# Altium integrated library CDE_Library.IntLib: 6171 symbols (part 21 of 25)
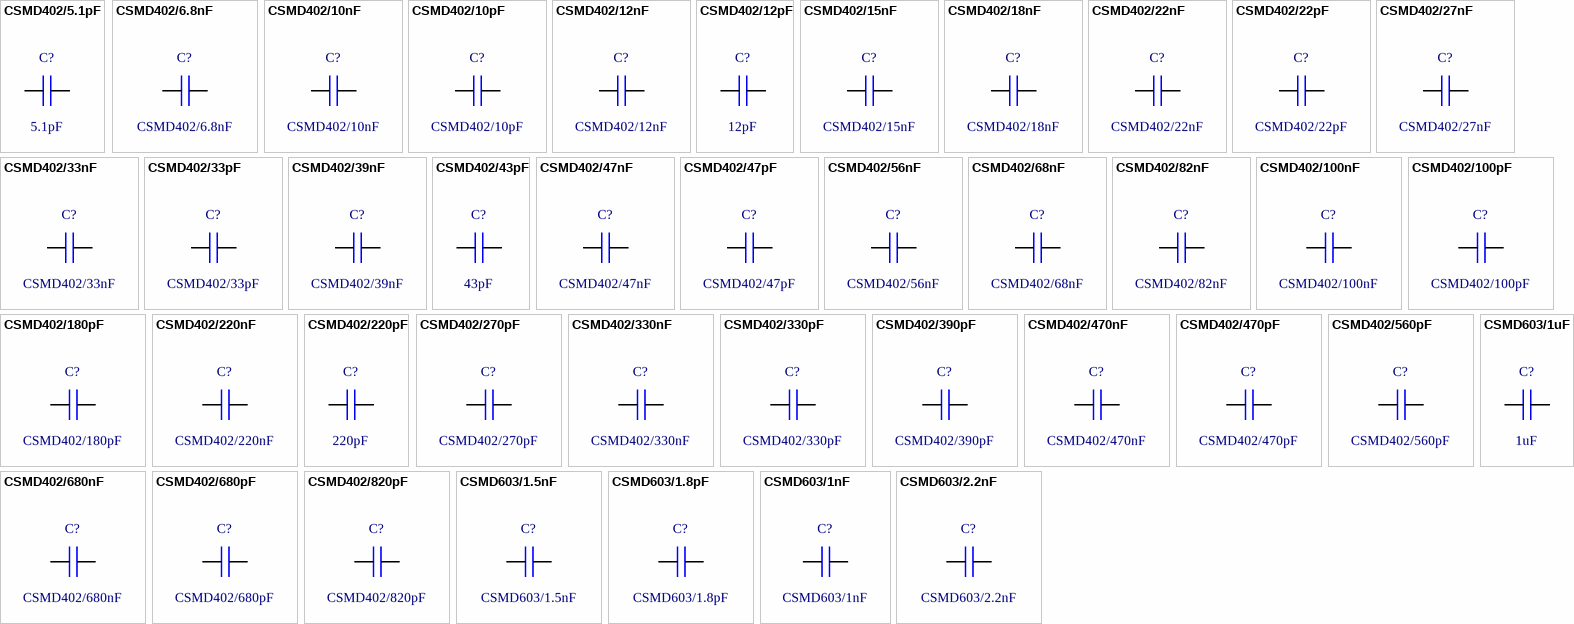
[diagram p277: symbols CSMD402/5.1pF to CSMD603/2.2nF]

## CSMD402/470nF
designator C?
smd capaciteit, verp.0402, 470nF; Part Number: CSMD402/470nF; Component Kind: Standard; Component Type: Standard; Designator: CSMD402/470nF; Footprint: smd C0402; Library Reference: CSMD402/470nF; Pin Count: 2
footprint smd C0402
pins: 1, 2

## CSMD402/470pF
designator C?
smd capaciteit, verp.0402, 470pF; Part Number: CSMD402/470pF; Component Kind: Standard; Component Type: Standard; Designator: CSMD402/470pF; Footprint: smd C0402; Library Reference: CSMD402/470pF; Pin Count: 2
footprint smd C0402
pins: 1, 2

## CSMD402/560pF
designator C?
smd capaciteit, verp.0402, 560pF; Part Number: CSMD402/560pF; Component Kind: Standard; Component Type: Standard; Designator: CSMD402/560pF; Footprint: smd C0402; Library Reference: CSMD402/560pF; Pin Count: 2
footprint smd C0402
pins: 1, 2

## CSMD402/680nF
designator C?
smd capaciteit, verp.0402, 680nF; Part Number: CSMD402/680nF; Component Kind: Standard; Component Type: Standard; Designator: CSMD402/680nF; Footprint: smd C0402; Library Reference: CSMD402/680nF; Pin Count: 2
footprint smd C0402
pins: 1, 2

## CSMD402/680pF
designator C?
smd capaciteit, verp.0402, 680pF; Part Number: CSMD402/680pF; Component Kind: Standard; Component Type: Standard; Designator: CSMD402/680pF; Footprint: smd C0402; Library Reference: CSMD402/680pF; Pin Count: 2
footprint smd C0402
pins: 1, 2

## CSMD402/820pF
designator C?
smd capaciteit, verp.0402, 820pF; Part Number: CSMD402/820pF; Component Kind: Standard; Component Type: Standard; Designator: CSMD402/820pF; Footprint: smd C0402; Library Reference: CSMD402/820pF; Pin Count: 2
footprint smd C0402
pins: 1, 2

## CSMD603/1.5nF
designator C?
smd capaciteit, verp.0603, 1.5nF; Part Number: CSMD603/1.5nF; Component Kind: Standard; Component Type: Standard; Designator: CSMD603/1.5nF; Footprint: smd C0603_0.80; Library Reference: CSMD603/1.5nF; Pin Count: 2
footprint smd C0603_0.80
pins: 1, 2

## CSMD603/1.8pF
designator C?
smd capaciteit, verp.0603, 1.8pF; Part Number: CSMD603/1.8pF; Component Kind: Standard; Component Type: Standard; Designator: CSMD603/1.8pF; Footprint: smd C0603_0.80; Library Reference: CSMD603/1.8pF; Pin Count: 2
footprint smd C0603_0.80
pins: 1, 2

## CSMD603/1nF
designator C?
smd capaciteit, verp.0603, 1nF; Part Number: CSMD603/1nF; Component Kind: Standard; Component Type: Standard; Designator: CSMD603/1nF; Footprint: smd C0603_0.80; Library Reference: CSMD603/1nF; Pin Count: 2
footprint smd C0603_0.80
pins: 1, 2

## CSMD603/1uF
designator C?, comment 1uF
smd capaciteit, verp.0603, 1uF; Part Number: CSMD603/18nF; Component Kind: Standard; Component Type: Standard; Designator: CSMD603/18nF; Footprint: smd C0603_0.80; Library Reference: CSMD603/18nF; Pin Count: 2
footprint smd C0603_0.80
pins: 1, 2

## CSMD603/2.2nF
designator C?
smd capaciteit, verp.0603, 2.2nF; Part Number: CSMD603/2.2nF; Component Kind: Standard; Component Type: Standard; Designator: CSMD603/2.2nF; Footprint: smd C0603_0.80; Library Reference: CSMD603/2.2nF; Pin Count: 2
footprint smd C0603_0.80
pins: 1, 2

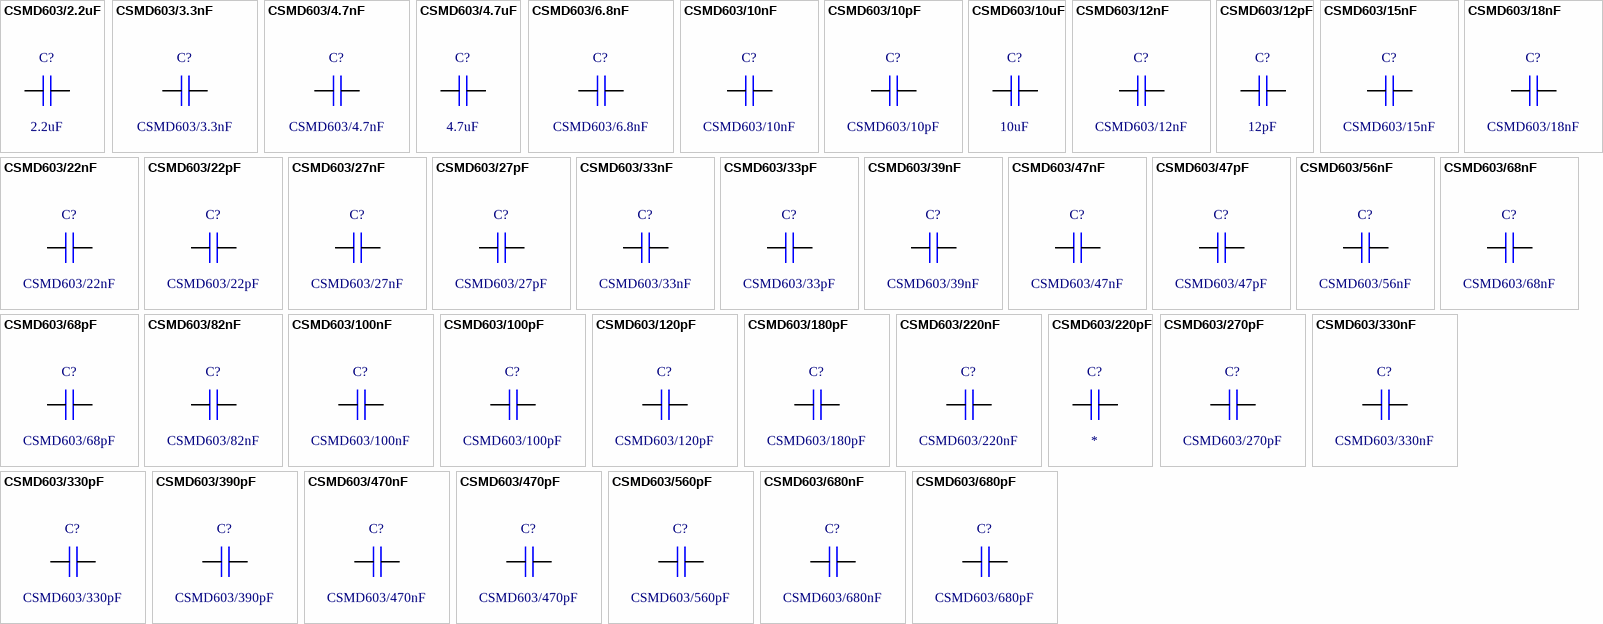
[diagram p228: symbols CSMD603/2.2uF to CSMD603/680pF]

## CSMD603/2.2uF
designator C?, comment 2.2uF
smd capaciteit, verp.0603, 2.2uF
footprint smd C0603_0.80
pins: 1, 2

## CSMD603/3.3nF
designator C?
smd capaciteit, verp.0603, 3.3nF; Part Number: CSMD603/3.3nF; Component Kind: Standard; Component Type: Standard; Designator: CSMD603/3.3nF; Footprint: smd C0603_0.80; Library Reference: CSMD603/3.3nF; Pin Count: 2
footprint smd C0603_0.80
pins: 1, 2

## CSMD603/4.7nF
designator C?
smd capaciteit, verp.0603, 4.7nF; Part Number: CSMD603/4.7nF; Component Kind: Standard; Component Type: Standard; Designator: CSMD603/4.7nF; Footprint: smd C0603_0.80; Library Reference: CSMD603/4.7nF; Pin Count: 2
footprint smd C0603_0.80
pins: 1, 2

## CSMD603/4.7uF
designator C?, comment 4.7uF
smd capaciteit, verp.0603, 4.7uF; Part Number: CSMD603/18nF; Component Kind: Standard; Component Type: Standard; Designator: CSMD603/18nF; Footprint: smd C0603_0.80; Library Reference: CSMD603/18nF; Pin Count: 2
footprint smd C0603_0.80
pins: 1, 2

## CSMD603/6.8nF
designator C?
smd capaciteit, verp.0603, 6.8nF; Part Number: CSMD603/6.8nF; Component Kind: Standard; Component Type: Standard; Designator: CSMD603/6.8nF; Footprint: smd C0603_0.80; Library Reference: CSMD603/6.8nF; Pin Count: 2
footprint smd C0603_0.80
pins: 1, 2

## CSMD603/10nF
designator C?
smd capaciteit, verp.0603, 10nF; Part Number: CSMD603/10nF; Component Kind: Standard; Component Type: Standard; Designator: CSMD603/10nF; Footprint: smd C0603_0.80; Library Reference: CSMD603/10nF; Pin Count: 2
footprint smd C0603_0.80
pins: 1, 2

## CSMD603/10pF
designator C?
smd capaciteit, verp.0603, 10pF; Part Number: CSMD603/10pF; Component Kind: Standard; Component Type: Standard; Designator: CSMD603/10pF; Footprint: smd C0603_0.80; Library Reference: CSMD603/10pF; Pin Count: 2
footprint smd C0603_0.80
pins: 1, 2

## CSMD603/10uF
designator C?, comment 10uF
smd capaciteit, verp.0603, 10uF
footprint smd C0603_0.80
pins: 1, 2

## CSMD603/12nF
designator C?
smd capaciteit, verp.0603, 12nF; Part Number: CSMD603/12nF; Component Kind: Standard; Component Type: Standard; Designator: CSMD603/12nF; Footprint: smd C0603_0.80; Library Reference: CSMD603/12nF; Pin Count: 2
footprint smd C0603_0.80
pins: 1, 2

## CSMD603/12pF
designator C?, comment 12pF
smd capaciteit, verp.0603, 12pF; Part Number: CSMD603/12nF; Component Kind: Standard; Component Type: Standard; Designator: CSMD603/12nF; Footprint: smd C0603_0.80; Library Reference: CSMD603/12nF; Pin Count: 2
footprint smd C0603_0.80
pins: 1, 2

## CSMD603/15nF
designator C?
smd capaciteit, verp.0603, 15nF; Part Number: CSMD603/15nF; Component Kind: Standard; Component Type: Standard; Designator: CSMD603/15nF; Footprint: smd C0603_0.80; Library Reference: CSMD603/15nF; Pin Count: 2
footprint smd C0603_0.80
pins: 1, 2

## CSMD603/18nF
designator C?
smd capaciteit, verp.0603, 18nF; Part Number: CSMD603/18nF; Component Kind: Standard; Component Type: Standard; Designator: CSMD603/18nF; Footprint: smd C0603_0.80; Library Reference: CSMD603/18nF; Pin Count: 2
footprint smd C0603_0.80
pins: 1, 2

## CSMD603/22nF
designator C?
smd capaciteit, verp.0603, 22nF; Part Number: CSMD603/22nF; Component Kind: Standard; Component Type: Standard; Designator: CSMD603/22nF; Footprint: smd C0603_0.80; Library Reference: CSMD603/22nF; Pin Count: 2
footprint smd C0603_0.80
pins: 1, 2

## CSMD603/22pF
designator C?
smd capaciteit, verp.0603, 22pF; Part Number: CSMD603/22pF; Component Kind: Standard; Component Type: Standard; Designator: CSMD603/22pF; Footprint: smd C0603_0.80; Library Reference: CSMD603/22pF; Pin Count: 2
footprint smd C0603_0.80
pins: 1, 2

## CSMD603/27nF
designator C?
smd capaciteit, verp.0603, 27nF; Part Number: CSMD603/27nF; Component Kind: Standard; Component Type: Standard; Designator: CSMD603/27nF; Footprint: smd C0603_0.80; Library Reference: CSMD603/27nF; Pin Count: 2
footprint smd C0603_0.80
pins: 1, 2

## CSMD603/27pF
designator C?
smd capaciteit, verp.0603, 27pF; Part Number: CSMD603/27pF; Component Kind: Standard; Component Type: Standard; Designator: CSMD603/27pF; Footprint: smd C0603_0.80; Library Reference: CSMD603/27pF; Pin Count: 2
footprint smd C0603_0.80
pins: 1, 2

## CSMD603/33nF
designator C?
smd capaciteit, verp.0603, 33nF; Part Number: CSMD603/33nF; Component Kind: Standard; Component Type: Standard; Designator: CSMD603/33nF; Footprint: smd C0603_0.80; Library Reference: CSMD603/33nF; Pin Count: 2
footprint smd C0603_0.80
pins: 1, 2

## CSMD603/33pF
designator C?
smd capaciteit, verp.0603, 33pF; Part Number: CSMD603/33pF; Component Kind: Standard; Component Type: Standard; Designator: CSMD603/33pF; Footprint: smd C0603_0.80; Library Reference: CSMD603/33pF; Pin Count: 2
footprint smd C0603_0.80
pins: 1, 2

## CSMD603/39nF
designator C?
smd capaciteit, verp.0603, 39nF; Part Number: CSMD603/39nF; Component Kind: Standard; Component Type: Standard; Designator: CSMD603/39nF; Footprint: smd C0603_0.80; Library Reference: CSMD603/39nF; Pin Count: 2
footprint smd C0603_0.80
pins: 1, 2

## CSMD603/47nF
designator C?
smd capaciteit, verp.0603, 47nF; Part Number: CSMD603/47nF; Component Kind: Standard; Component Type: Standard; Designator: CSMD603/47nF; Footprint: smd C0603_0.80; Library Reference: CSMD603/47nF; Pin Count: 2
footprint smd C0603_0.80
pins: 1, 2

## CSMD603/47pF
designator C?
smd capaciteit, verp.0603, 47pF; Part Number: CSMD603/47pF; Component Kind: Standard; Component Type: Standard; Designator: CSMD603/47pF; Footprint: smd C0603_0.80; Library Reference: CSMD603/47pF; Pin Count: 2
footprint smd C0603_0.80
pins: 1, 2

## CSMD603/56nF
designator C?
smd capaciteit, verp.0603, 56nF; Part Number: CSMD603/56nF; Component Kind: Standard; Component Type: Standard; Designator: CSMD603/56nF; Footprint: smd C0603_0.80; Library Reference: CSMD603/56nF; Pin Count: 2
footprint smd C0603_0.80
pins: 1, 2

## CSMD603/68nF
designator C?
smd capaciteit, verp.0603, 68nF; Part Number: CSMD603/68nF; Component Kind: Standard; Component Type: Standard; Designator: CSMD603/68nF; Footprint: smd C0603_0.80; Library Reference: CSMD603/68nF; Pin Count: 2
footprint smd C0603_0.80
pins: 1, 2

## CSMD603/68pF
designator C?
smd capaciteit, verp.0603, 68pF; Part Number: CSMD603/68pF; Component Kind: Standard; Component Type: Standard; Designator: CSMD603/68pF; Footprint: smd C0603_0.80; Library Reference: CSMD603/68pF; Pin Count: 2
footprint smd C0603_0.80
pins: 1, 2

## CSMD603/82nF
designator C?
smd capaciteit, verp.0603, 82nF; Part Number: CSMD603/82nF; Component Kind: Standard; Component Type: Standard; Designator: CSMD603/82nF; Footprint: smd C0603_0.80; Library Reference: CSMD603/82nF; Pin Count: 2
footprint smd C0603_0.80
pins: 1, 2

## CSMD603/100nF
designator C?
smd capaciteit, verp.0603, 100nF; Part Number: CSMD603/100nF; Component Kind: Standard; Component Type: Standard; Designator: CSMD603/100nF; Footprint: smd C0603_0.80; Library Reference: CSMD603/100nF; Pin Count: 2
footprint smd C0603_0.80
pins: 1, 2

## CSMD603/100pF
designator C?
smd capaciteit, verp.0603, 100pF; Part Number: CSMD603/100pF; Component Kind: Standard; Component Type: Standard; Designator: CSMD603/100pF; Footprint: smd C0603_0.80; Library Reference: CSMD603/100pF; Pin Count: 2
footprint smd C0603_0.80
pins: 1, 2

## CSMD603/120pF
designator C?
smd capaciteit, verp.0603, 120pF; Part Number: CSMD603/120pF; Component Kind: Standard; Component Type: Standard; Designator: CSMD603/120pF; Footprint: smd C0603_0.80; Library Reference: CSMD603/120pF; Pin Count: 2
footprint smd C0603_0.80
pins: 1, 2

## CSMD603/180pF
designator C?
smd capaciteit, verp.0603, 180pF; Part Number: CSMD603/180pF; Component Kind: Standard; Component Type: Standard; Designator: CSMD603/180pF; Footprint: smd C0603_0.80; Library Reference: CSMD603/180pF; Pin Count: 2
footprint smd C0603_0.80
pins: 1, 2

## CSMD603/220nF
designator C?
smd capaciteit, verp.0603, 220nF; Part Number: CSMD603/220nF; Component Kind: Standard; Component Type: Standard; Designator: CSMD603/220nF; Footprint: smd C0603_0.80; Library Reference: CSMD603/220nF; Pin Count: 2
footprint smd C0603_0.80
pins: 1, 2

## CSMD603/220pF
designator C?
smd capaciteit, verp.0603, 220pF
footprint smd C0603_0.80
pins: 1, 2

## CSMD603/270pF
designator C?
smd capaciteit, verp.0603, 270pF; Part Number: CSMD603/270pF; Component Kind: Standard; Component Type: Standard; Designator: CSMD603/270pF; Footprint: smd C0603_0.80; Library Reference: CSMD603/270pF; Pin Count: 2
footprint smd C0603_0.80
pins: 1, 2

## CSMD603/330nF
designator C?
smd capaciteit, verp.0603, 330nF; Part Number: CSMD603/330nF; Component Kind: Standard; Component Type: Standard; Designator: CSMD603/330nF; Footprint: smd C0603_0.80; Library Reference: CSMD603/330nF; Pin Count: 2
footprint smd C0603_0.80
pins: 1, 2

## CSMD603/330pF
designator C?
smd capaciteit, verp.0603, 330pF; Part Number: CSMD603/330pF; Component Kind: Standard; Component Type: Standard; Designator: CSMD603/330pF; Footprint: smd C0603_0.80; Library Reference: CSMD603/330pF; Pin Count: 2
footprint smd C0603_0.80
pins: 1, 2

## CSMD603/390pF
designator C?
smd capaciteit, verp.0603, 390pF; Part Number: CSMD603/390pF; Component Kind: Standard; Component Type: Standard; Designator: CSMD603/390pF; Footprint: smd C0603_0.80; Library Reference: CSMD603/390pF; Pin Count: 2
footprint smd C0603_0.80
pins: 1, 2

## CSMD603/470nF
designator C?
smd capaciteit, verp.0603, 470nF; Part Number: CSMD603/470nF; Component Kind: Standard; Component Type: Standard; Designator: CSMD603/470nF; Footprint: smd C0603_0.80; Library Reference: CSMD603/470nF; Pin Count: 2
footprint smd C0603_0.80
pins: 1, 2

## CSMD603/470pF
designator C?
smd capaciteit, verp.0603, 470pF; Part Number: CSMD603/470pF; Component Kind: Standard; Component Type: Standard; Designator: CSMD603/470pF; Footprint: smd C0603_0.80; Library Reference: CSMD603/470pF; Pin Count: 2
footprint smd C0603_0.80
pins: 1, 2

## CSMD603/560pF
designator C?
smd capaciteit, verp.0603, 560pF; Part Number: CSMD603/560pF; Component Kind: Standard; Component Type: Standard; Designator: CSMD603/560pF; Footprint: smd C0603_0.80; Library Reference: CSMD603/560pF; Pin Count: 2
footprint smd C0603_0.80
pins: 1, 2

## CSMD603/680nF
designator C?
smd capaciteit, verp.0603, 680nF; Part Number: CSMD603/680nF; Component Kind: Standard; Component Type: Standard; Designator: CSMD603/680nF; Footprint: smd C0603_0.80; Library Reference: CSMD603/680nF; Pin Count: 2
footprint smd C0603_0.80
pins: 1, 2

## CSMD603/680pF
designator C?
smd capaciteit, verp.0603, 680pF; Part Number: CSMD603/680pF; Component Kind: Standard; Component Type: Standard; Designator: CSMD603/680pF; Footprint: smd C0603_0.80; Library Reference: CSMD603/680pF; Pin Count: 2
footprint smd C0603_0.80
pins: 1, 2

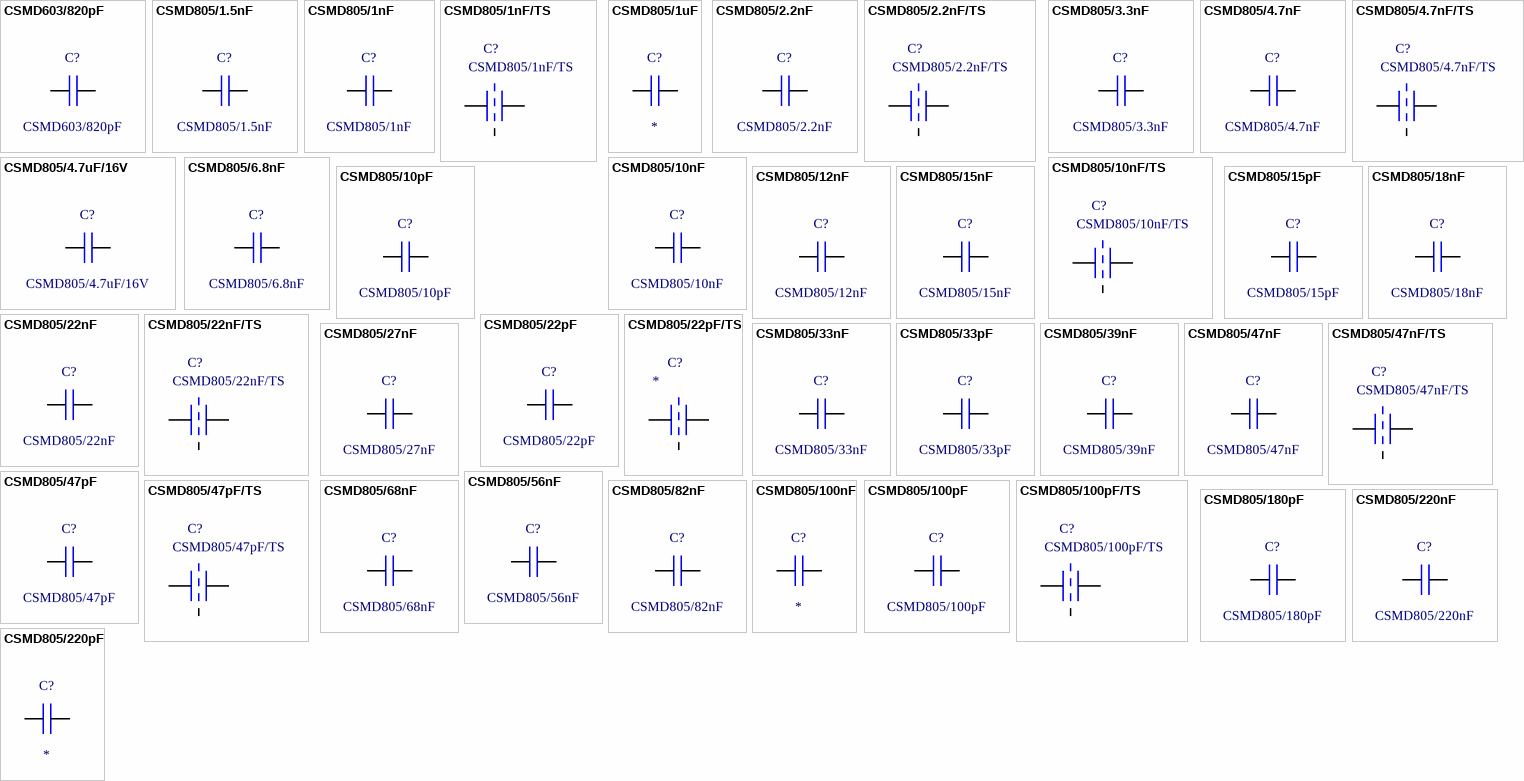
[diagram p229: symbols CSMD603/820pF to CSMD805/220pF]

## CSMD603/820pF
designator C?
smd capaciteit, verp.0603, 820pF; Part Number: CSMD603/820pF; Component Kind: Standard; Component Type: Standard; Designator: CSMD603/820pF; Footprint: smd C0603_0.80; Library Reference: CSMD603/820pF; Pin Count: 2
footprint smd C0603_0.80
pins: 1, 2

## CSMD805/1.5nF
designator C?
smd capaciteit, verp.0805, 1.5nF; Part Number: CSMD805/1.5nF; Component Kind: Standard; Component Type: Standard; Designator: CSMD805/1.5nF; Footprint: smd C0805_0.60; Library Reference: CSMD805/1.5nF; Pin Count: 2
footprint smd C0805_0.60
pins: 1, 2

## CSMD805/1nF
designator C?
smd capaciteit, verp.0805, 1nF; Part Number: CSMD805/1nF; Component Kind: Standard; Component Type: Standard; Designator: CSMD805/1nF; Footprint: smd C0805_0.60; Library Reference: CSMD805/1nF; Pin Count: 2
footprint smd C0805_0.60
pins: 1, 2

## CSMD805/1nF/TS
designator C?
smd capaciteit, verp.805, tussenscherm, 1nF; Part Number: CSMD805/1nF/TS; Component Kind: Standard; Component Type: Standard; Designator: CSMD805/1nF/TS; Footprint: smd C0805 (3 pads); Library Reference: CSMD805/1nF/TS; Pin Count: 3
footprint smd C0805 (3 pads)
pins: 1, 2, 3

## CSMD805/1uF
designator C?
smd capaciteit, verp.0805, 1uF
footprint smd C0805_1.30
pins: 1, 2

## CSMD805/2.2nF
designator C?
smd capaciteit, verp.0805, 2.2nF; Part Number: CSMD805/2.2nF; Component Kind: Standard; Component Type: Standard; Designator: CSMD805/2.2nF; Footprint: smd C0805_0.60; Library Reference: CSMD805/2.2nF; Pin Count: 2
footprint smd C0805_0.60
pins: 1, 2

## CSMD805/2.2nF/TS
designator C?
smd capaciteit, verp.805, tussenscherm, 2.2nF; Part Number: CSMD805/2.2nF/TS; Component Kind: Standard; Component Type: Standard; Designator: CSMD805/2.2nF/TS; Footprint: smd C0805 (3 pads); Library Reference: CSMD805/2.2nF/TS; Pin Count: 3
footprint smd C0805 (3 pads)
pins: 1, 2, 3

## CSMD805/3.3nF
designator C?
smd capaciteit, verp.0805, 3.3nF; Part Number: CSMD805/3.3nF; Component Kind: Standard; Component Type: Standard; Designator: CSMD805/3.3nF; Footprint: smd C0805_0.60; Library Reference: CSMD805/3.3nF; Pin Count: 2
footprint smd C0805_0.60
pins: 1, 2

## CSMD805/4.7nF
designator C?
smd capaciteit, verp.0805, 4.7nF; Part Number: CSMD805/4.7nF; Component Kind: Standard; Component Type: Standard; Designator: CSMD805/4.7nF; Footprint: smd C0805_0.60; Library Reference: CSMD805/4.7nF; Pin Count: 2
footprint smd C0805_0.60
pins: 1, 2

## CSMD805/4.7nF/TS
designator C?
smd capaciteit, verp.805, tussenscherm, 4.7nF; Part Number: CSMD805/4.7nF/TS; Component Kind: Standard; Component Type: Standard; Designator: CSMD805/4.7nF/TS; Footprint: smd C0805 (3 pads); Library Reference: CSMD805/4.7nF/TS; Pin Count: 3
footprint smd C0805 (3 pads)
pins: 1, 2, 3

## CSMD805/4.7uF/16V
designator C?
smd capaciteit, verp.0805, 4.7uF/16V; Part Number: CSMD805/4.7uF/16V; Component Kind: Standard; Component Type: Standard; Designator: CSMD805/4.7uF/16V; Footprint: smd C0805_0.60; Library Reference: CSMD805/4.7uF/16V; Pin Count: 2
footprint smd C0805_0.60
pins: 1, 2

## CSMD805/6.8nF
designator C?
smd capaciteit, verp.0805, 6.8nF; Part Number: CSMD805/6.8nF; Component Kind: Standard; Component Type: Standard; Designator: CSMD805/6.8nF; Footprint: smd C0805_0.60; Library Reference: CSMD805/6.8nF; Pin Count: 2
footprint smd C0805_0.60
pins: 1, 2

## CSMD805/10nF
designator C?
smd capaciteit, verp.0805, 10nF; Part Number: CSMD805/10nF; Component Kind: Standard; Component Type: Standard; Designator: CSMD805/10nF; Footprint: smd C0805_0.60; Library Reference: CSMD805/10nF; Pin Count: 2
footprint smd C0805_0.60
pins: 1, 2

## CSMD805/10nF/TS
designator C?
smd capaciteit, verp.805, tussenscherm, 10nF; Part Number: CSMD805/10nF/TS; Component Kind: Standard; Component Type: Standard; Designator: CSMD805/10nF/TS; Footprint: smd C0805 (3 pads); Library Reference: CSMD805/10nF/TS; Pin Count: 3
footprint smd C0805 (3 pads)
pins: 1, 2, 3

## CSMD805/10pF
designator C?
smd capaciteit, verp.0805, 10pF; Part Number: CSMD805/10pF; Component Kind: Standard; Component Type: Standard; Designator: CSMD805/10pF; Footprint: smd C0805_0.60; Library Reference: CSMD805/10pF; Pin Count: 2
footprint smd C0805_0.60
pins: 1, 2

## CSMD805/12nF
designator C?
smd capaciteit, verp.0805, 12nF; Part Number: CSMD805/12nF; Component Kind: Standard; Component Type: Standard; Designator: CSMD805/12nF; Footprint: smd C0805_0.60; Library Reference: CSMD805/12nF; Pin Count: 2
footprint smd C0805_0.60
pins: 1, 2

## CSMD805/15nF
designator C?
smd capaciteit, verp.0805, 15nF; Part Number: CSMD805/15nF; Component Kind: Standard; Component Type: Standard; Designator: CSMD805/15nF; Footprint: smd C0805_0.60; Library Reference: CSMD805/15nF; Pin Count: 2
footprint smd C0805_0.60
pins: 1, 2

## CSMD805/15pF
designator C?
smd capaciteit, verp.0805, 15pF; Part Number: CSMD805/15pF; Component Kind: Standard; Component Type: Standard; Designator: CSMD805/15pF; Footprint: smd C0805_0.60; Library Reference: CSMD805/15pF; Pin Count: 2
footprint smd C0805_0.60
pins: 1, 2

## CSMD805/18nF
designator C?
smd capaciteit, verp.0805, 18nF; Part Number: CSMD805/18nF; Component Kind: Standard; Component Type: Standard; Designator: CSMD805/18nF; Footprint: smd C0805_0.60; Library Reference: CSMD805/18nF; Pin Count: 2
footprint smd C0805_0.60
pins: 1, 2

## CSMD805/22nF
designator C?
smd capaciteit, verp.0805, 22nF; Part Number: CSMD805/22nF; Component Kind: Standard; Component Type: Standard; Designator: CSMD805/22nF; Footprint: smd C0805_0.60; Library Reference: CSMD805/22nF; Pin Count: 2
footprint smd C0805_0.60
pins: 1, 2

## CSMD805/22nF/TS
designator C?
smd capaciteit, verp.805, tussenscherm, 22nF; Part Number: CSMD805/22nF/TS; Component Kind: Standard; Component Type: Standard; Designator: CSMD805/22nF/TS; Footprint: smd C0805 (3 pads); Library Reference: CSMD805/22nF/TS; Pin Count: 3
footprint smd C0805 (3 pads)
pins: 1, 2, 3

## CSMD805/22pF
designator C?
smd capaciteit, verp.0805, 22pF; Part Number: CSMD805/22pF; Component Kind: Standard; Component Type: Standard; Designator: CSMD805/22pF; Footprint: smd C0805_0.60; Library Reference: CSMD805/22pF; Pin Count: 2
footprint smd C0805_0.60
pins: 1, 2

## CSMD805/22pF/TS
designator C?
smd capaciteit, verp.805, tussenscherm, 22pF
footprint smd C0805 (3 pads)
pins: 1, 2, 3

## CSMD805/27nF
designator C?
smd capaciteit, verp.0805, 27nF; Part Number: CSMD805/27nF; Component Kind: Standard; Component Type: Standard; Designator: CSMD805/27nF; Footprint: smd C0805_0.60; Library Reference: CSMD805/27nF; Pin Count: 2
footprint smd C0805_0.60
pins: 1, 2

## CSMD805/33nF
designator C?
smd capaciteit, verp.0805, 33nF; Part Number: CSMD805/33nF; Component Kind: Standard; Component Type: Standard; Designator: CSMD805/33nF; Footprint: smd C0805_0.60; Library Reference: CSMD805/33nF; Pin Count: 2
footprint smd C0805_0.60
pins: 1, 2

## CSMD805/33pF
designator C?
smd capaciteit, verp.0805, 33pF; Part Number: CSMD805/33pF; Component Kind: Standard; Component Type: Standard; Designator: CSMD805/33pF; Footprint: smd C0805_0.60; Library Reference: CSMD805/33pF; Pin Count: 2
footprint smd C0805_0.60
pins: 1, 2

## CSMD805/39nF
designator C?
smd capaciteit, verp.0805, 39nF; Part Number: CSMD805/39nF; Component Kind: Standard; Component Type: Standard; Designator: CSMD805/39nF; Footprint: smd C0805_0.60; Library Reference: CSMD805/39nF; Pin Count: 2
footprint smd C0805_0.60
pins: 1, 2

## CSMD805/47nF
designator C?
smd capaciteit, verp.0805, 47nF; Part Number: CSMD805/47nF; Component Kind: Standard; Component Type: Standard; Designator: CSMD805/47nF; Footprint: smd C0805_0.60; Library Reference: CSMD805/47nF; Pin Count: 2
footprint smd C0805_0.60
pins: 1, 2

## CSMD805/47nF/TS
designator C?
smd capaciteit, verp.805, tussenscherm, 47nF; Part Number: CSMD805/47nF/TS; Component Kind: Standard; Component Type: Standard; Designator: CSMD805/47nF/TS; Footprint: smd C0805 (3 pads); Library Reference: CSMD805/47nF/TS; Pin Count: 3
footprint smd C0805 (3 pads)
pins: 1, 2, 3

## CSMD805/47pF
designator C?
smd capaciteit, verp.0805, 47pF; Part Number: CSMD805/47pF; Component Kind: Standard; Component Type: Standard; Designator: CSMD805/47pF; Footprint: smd C0805_0.60; Library Reference: CSMD805/47pF; Pin Count: 2
footprint smd C0805_0.60
pins: 1, 2

## CSMD805/47pF/TS
designator C?
smd capaciteit, verp.805, tussenscherm, 47pF; Part Number: CSMD805/47pF/TS; Component Kind: Standard; Component Type: Standard; Designator: CSMD805/47pF/TS; Footprint: smd C0805 (3 pads); Library Reference: CSMD805/47pF/TS; Pin Count: 3
footprint smd C0805 (3 pads)
pins: 1, 2, 3

## CSMD805/56nF
designator C?
smd capaciteit, verp.0805, 56nF; Part Number: CSMD805/56nF; Component Kind: Standard; Component Type: Standard; Designator: CSMD805/56nF; Footprint: smd C0805_0.60; Library Reference: CSMD805/56nF; Pin Count: 2
footprint smd C0805_0.60
pins: 1, 2

## CSMD805/68nF
designator C?
smd capaciteit, verp.0805, 68nF; Part Number: CSMD805/68nF; Component Kind: Standard; Component Type: Standard; Designator: CSMD805/68nF; Footprint: smd C0805_0.60; Library Reference: CSMD805/68nF; Pin Count: 2
footprint smd C0805_0.60
pins: 1, 2

## CSMD805/82nF
designator C?
smd capaciteit, verp.0805, 82nF; Part Number: CSMD805/82nF; Component Kind: Standard; Component Type: Standard; Designator: CSMD805/82nF; Footprint: smd C0805_0.60; Library Reference: CSMD805/82nF; Pin Count: 2
footprint smd C0805_0.60
pins: 1, 2

## CSMD805/100nF
designator C?
smd capaciteit, verp.0805, 100nF
footprint smd C0805_0.85
pins: 1, 2

## CSMD805/100pF
designator C?
smd capaciteit, verp.0805, 100pF; Part Number: CSMD805/100pF; Component Kind: Standard; Component Type: Standard; Designator: CSMD805/100pF; Footprint: smd C0805_0.60; Library Reference: CSMD805/100pF; Pin Count: 2
footprint smd C0805_0.60
pins: 1, 2

## CSMD805/100pF/TS
designator C?
smd capaciteit, verp.805, tussenscherm, 100pF; Part Number: CSMD805/100pF/TS; Component Kind: Standard; Component Type: Standard; Designator: CSMD805/100pF/TS; Footprint: smd C0805 (3 pads); Library Reference: CSMD805/100pF/TS; Pin Count: 3
footprint smd C0805 (3 pads)
pins: 1, 2, 3

## CSMD805/180pF
designator C?
smd capaciteit, verp.0805, 180pF; Part Number: CSMD805/180pF; Component Kind: Standard; Component Type: Standard; Designator: CSMD805/180pF; Footprint: smd C0805_0.60; Library Reference: CSMD805/180pF; Pin Count: 2
footprint smd C0805_0.60
pins: 1, 2

## CSMD805/220nF
designator C?
smd capaciteit, verp.0805, 220nF; Part Number: CSMD805/220nF; Component Kind: Standard; Component Type: Standard; Designator: CSMD805/220nF; Footprint: smd C0805_0.60; Library Reference: CSMD805/220nF; Pin Count: 2
footprint smd C0805_0.60
pins: 1, 2

## CSMD805/220pF
designator C?
smd capaciteit, verp.0805, 220pF
footprint smd C0805_0.60
pins: 1, 2

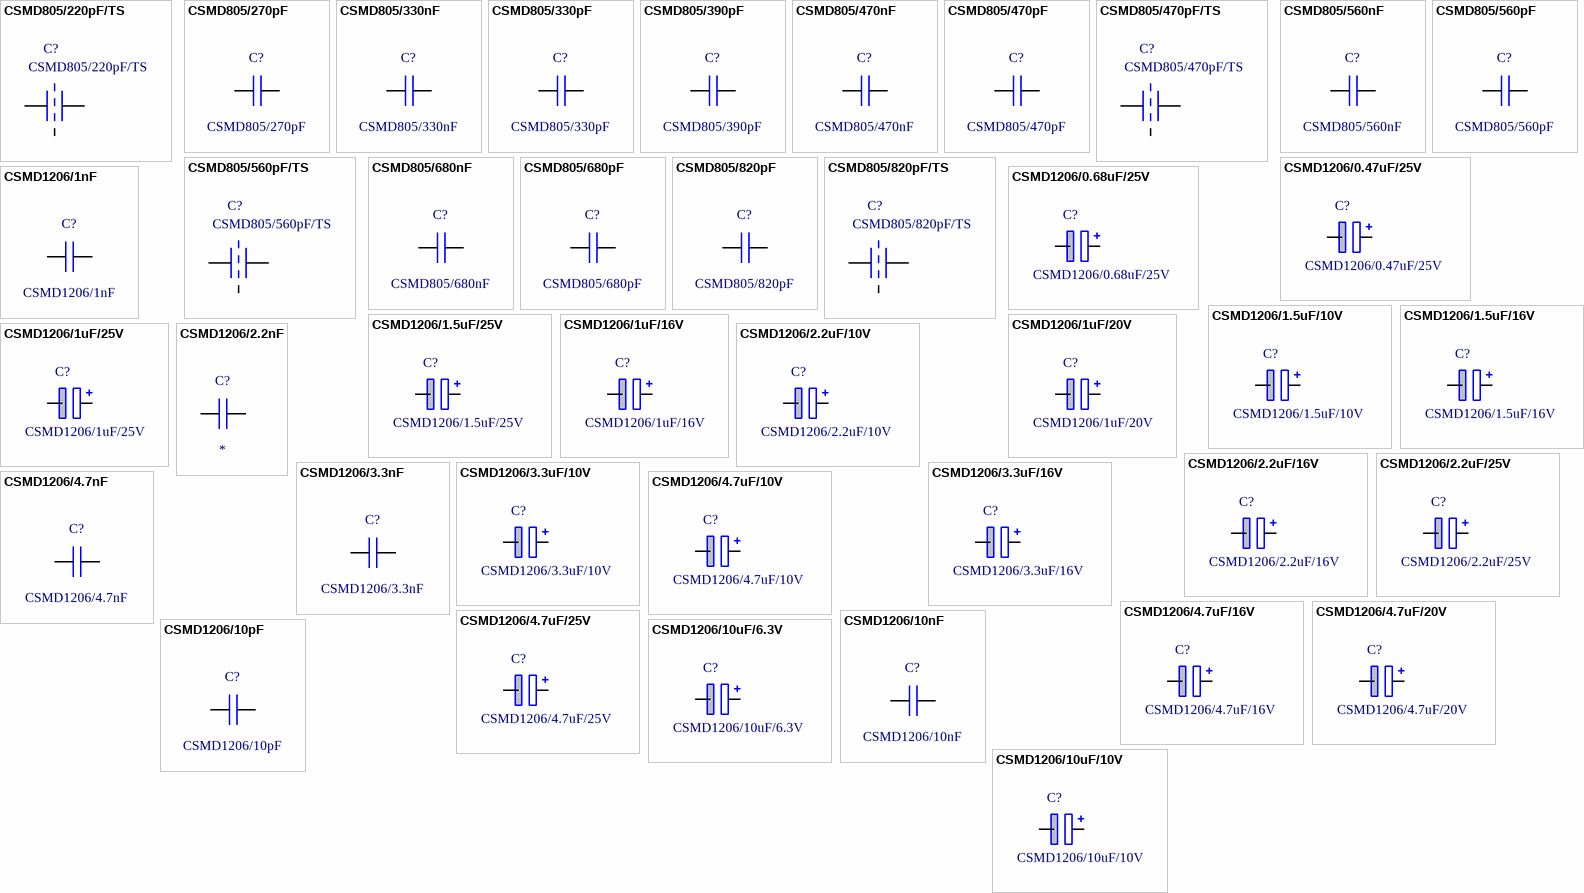
[diagram p230: symbols CSMD805/220pF/TS to CSMD1206/10uF/10V]

## CSMD805/220pF/TS
designator C?
smd capaciteit, verp.805, tussenscherm, 220pF; Part Number: CSMD805/220pF/TS; Component Kind: Standard; Component Type: Standard; Designator: CSMD805/220pF/TS; Footprint: smd C0805 (3 pads); Library Reference: CSMD805/220pF/TS; Pin Count: 3
footprint smd C0805 (3 pads)
pins: 1, 2, 3

## CSMD805/270pF
designator C?
smd capaciteit, verp.0805, 270pF; Part Number: CSMD805/270pF; Component Kind: Standard; Component Type: Standard; Designator: CSMD805/270pF; Footprint: smd C0805_0.60; Library Reference: CSMD805/270pF; Pin Count: 2
footprint smd C0805_0.60
pins: 1, 2

## CSMD805/330nF
designator C?
smd capaciteit, verp.0805, 330nF; Part Number: CSMD805/330nF; Component Kind: Standard; Component Type: Standard; Designator: CSMD805/330nF; Footprint: smd C0805_0.60; Library Reference: CSMD805/330nF; Pin Count: 2
footprint smd C0805_0.60
pins: 1, 2

## CSMD805/330pF
designator C?
smd capaciteit, verp.0805, 330pF; Part Number: CSMD805/330pF; Component Kind: Standard; Component Type: Standard; Designator: CSMD805/330pF; Footprint: smd C0805_0.60; Library Reference: CSMD805/330pF; Pin Count: 2
footprint smd C0805_0.60
pins: 1, 2

## CSMD805/390pF
designator C?
smd capaciteit, verp.0805, 390pF; Part Number: CSMD805/390pF; Component Kind: Standard; Component Type: Standard; Designator: CSMD805/390pF; Footprint: smd C0805_0.60; Library Reference: CSMD805/390pF; Pin Count: 2
footprint smd C0805_0.60
pins: 1, 2

## CSMD805/470nF
designator C?
smd capaciteit, verp.0805, 470nF; Part Number: CSMD805/470nF; Component Kind: Standard; Component Type: Standard; Designator: CSMD805/470nF; Footprint: smd C0805_0.60; Library Reference: CSMD805/470nF; Pin Count: 2
footprint smd C0805_0.60
pins: 1, 2

## CSMD805/470pF
designator C?
smd capaciteit, verp.0805, 470pF; Part Number: CSMD805/470pF; Component Kind: Standard; Component Type: Standard; Designator: CSMD805/470pF; Footprint: smd C0805_0.60; Library Reference: CSMD805/470pF; Pin Count: 2
footprint smd C0805_0.60
pins: 1, 2

## CSMD805/470pF/TS
designator C?
smd capaciteit, verp.805, tussenscherm, 470pF; Part Number: CSMD805/470pF/TS; Component Kind: Standard; Component Type: Standard; Designator: CSMD805/470pF/TS; Footprint: smd C0805 (3 pads); Library Reference: CSMD805/470pF/TS; Pin Count: 3
footprint smd C0805 (3 pads)
pins: 1, 2, 3

## CSMD805/560nF
designator C?
smd capaciteit, verp.0805, 560nF; Part Number: CSMD805/560nF; Component Kind: Standard; Component Type: Standard; Designator: CSMD805/560nF; Footprint: smd C0805_0.60; Library Reference: CSMD805/560nF; Pin Count: 2
footprint smd C0805_0.60
pins: 1, 2

## CSMD805/560pF
designator C?
smd capaciteit, verp.0805, 560pF; Part Number: CSMD805/560pF; Component Kind: Standard; Component Type: Standard; Designator: CSMD805/560pF; Footprint: smd C0805_0.60; Library Reference: CSMD805/560pF; Pin Count: 2
footprint smd C0805_0.60
pins: 1, 2

## CSMD805/560pF/TS
designator C?
smd capaciteit, verp.805, tussenscherm, 560pF; Part Number: CSMD805/560pF/TS; Component Kind: Standard; Component Type: Standard; Designator: CSMD805/560pF/TS; Footprint: smd C0805 (3 pads); Library Reference: CSMD805/560pF/TS; Pin Count: 3
footprint smd C0805 (3 pads)
pins: 1, 2, 3

## CSMD805/680nF
designator C?
smd capaciteit, verp.0805, 680nF; Part Number: CSMD805/680nF; Component Kind: Standard; Component Type: Standard; Designator: CSMD805/680nF; Footprint: smd C0805_0.60; Library Reference: CSMD805/680nF; Pin Count: 2
footprint smd C0805_0.60
pins: 1, 2

## CSMD805/680pF
designator C?
smd capaciteit, verp.0805, 680pF; Part Number: CSMD805/680pF; Component Kind: Standard; Component Type: Standard; Designator: CSMD805/680pF; Footprint: smd C0805_0.60; Library Reference: CSMD805/680pF; Pin Count: 2
footprint smd C0805_0.60
pins: 1, 2

## CSMD805/820pF
designator C?
smd capaciteit, verp.0805, 820pF; Part Number: CSMD805/820pF; Component Kind: Standard; Component Type: Standard; Designator: CSMD805/820pF; Footprint: smd C0805_0.60; Library Reference: CSMD805/820pF; Pin Count: 2
footprint smd C0805_0.60
pins: 1, 2

## CSMD805/820pF/TS
designator C?
smd capaciteit, verp.805, tussenscherm, 820pF; Part Number: CSMD805/820pF/TS; Component Kind: Standard; Component Type: Standard; Designator: CSMD805/820pF/TS; Footprint: smd C0805 (3 pads); Library Reference: CSMD805/820pF/TS; Pin Count: 3
footprint smd C0805 (3 pads)
pins: 1, 2, 3

## CSMD1206/0.47uF/25V
designator C?
smd capaciteit, tantalium, verp.1206, 0.47uF/25V; Part Number: CSMD1206/0.47uF/25V; Component Kind: Standard; Component Type: Standard; Designator: CSMD1206/0.47uF/25V; Footprint: smd C1206 polar; Library Reference: CSMD1206/0.47uF/25V; Pin Count: 2
footprint smd C1206 polar
pins: 1, 2

## CSMD1206/0.68uF/25V
designator C?
smd capaciteit, tantalium, verp.1206, 0.68uF/25V; Part Number: CSMD1206/0.68uF/25V; Component Kind: Standard; Component Type: Standard; Designator: CSMD1206/0.68uF/25V; Footprint: smd C1206 polar; Library Reference: CSMD1206/0.68uF/25V; Pin Count: 2
footprint smd C1206 polar
pins: 1, 2

## CSMD1206/1.5uF/10V
designator C?
smd capaciteit, tantalium, verp.1206, 1.5uF/10V; Part Number: CSMD1206/1.5uF/10V; Component Kind: Standard; Component Type: Standard; Designator: CSMD1206/1.5uF/10V; Footprint: smd C1206 polar; Library Reference: CSMD1206/1.5uF/10V; Pin Count: 2
footprint smd C1206 polar
pins: 1, 2

## CSMD1206/1.5uF/16V
designator C?
smd capaciteit, tantalium, verp.1206, 1.5uF/16V; Part Number: CSMD1206/1.5uF/16V; Component Kind: Standard; Component Type: Standard; Designator: CSMD1206/1.5uF/16V; Footprint: smd C1206 polar; Library Reference: CSMD1206/1.5uF/16V; Pin Count: 2
footprint smd C1206 polar
pins: 1, 2

## CSMD1206/1.5uF/25V
designator C?
smd capaciteit, tantalium, verp.1206, 1.5uF/25V; Part Number: CSMD1206/1.5uF/25V; Component Kind: Standard; Component Type: Standard; Designator: CSMD1206/1.5uF/25V; Footprint: smd C1206 polar; Library Reference: CSMD1206/1.5uF/25V; Pin Count: 2
footprint smd C1206 polar
pins: 1, 2

## CSMD1206/1nF
designator C?
smd capaciteit, verp.1206, 1nF; Part Number: CSMD1206/1nF; Component Kind: Standard; Component Type: Standard; Designator: CSMD1206/1nF; Footprint: smd C1206; Library Reference: CSMD1206/1nF; Pin Count: 2
footprint smd C1206
pins: 1, 2

## CSMD1206/1uF/16V
designator C?
smd capaciteit, tantalium, verp.1206, 1uF/16V; Part Number: CSMD1206/1uF/16V; Component Kind: Standard; Component Type: Standard; Designator: CSMD1206/1uF/16V; Footprint: smd C1206 polar; Library Reference: CSMD1206/1uF/16V; Pin Count: 2
footprint smd C1206 polar
pins: 1, 2

## CSMD1206/1uF/20V
designator C?
smd capaciteit, tantalium, verp.1206, 1uF/20V; Part Number: CSMD1206/1uF/20V; Component Kind: Standard; Component Type: Standard; Designator: CSMD1206/1uF/20V; Footprint: smd C1206 polar; Library Reference: CSMD1206/1uF/20V; Pin Count: 2
footprint smd C1206 polar
pins: 1, 2

## CSMD1206/1uF/25V
designator C?
smd capaciteit, tantalium, verp.1206, 1uF/25V; Part Number: CSMD1206/1uF/25V; Component Kind: Standard; Component Type: Standard; Designator: CSMD1206/1uF/25V; Footprint: smd C1206 polar; Library Reference: CSMD1206/1uF/25V; Pin Count: 2
footprint smd C1206 polar
pins: 1, 2

## CSMD1206/2.2nF
designator C?
smd capaciteit, verp.1206, 2.2nF
footprint smd C1206
pins: 1, 2

## CSMD1206/2.2uF/10V
designator C?
smd capaciteit, tantalium, verp.1206, 2.2uF/10V; Part Number: CSMD1206/2.2uF/10V; Component Kind: Standard; Component Type: Standard; Designator: CSMD1206/2.2uF/10V; Footprint: smd C1206 polar; Library Reference: CSMD1206/2.2uF/10V; Pin Count: 2
footprint smd C1206 polar
pins: 1, 2

## CSMD1206/2.2uF/16V
designator C?
smd capaciteit, tantalium, verp.1206, 2.2uF/16V; Part Number: CSMD1206/2.2uF/16V; Component Kind: Standard; Component Type: Standard; Designator: CSMD1206/2.2uF/16V; Footprint: smd C1206 polar; Library Reference: CSMD1206/2.2uF/16V; Pin Count: 2
footprint smd C1206 polar
pins: 1, 2

## CSMD1206/2.2uF/25V
designator C?
smd capaciteit, tantalium, verp.1206, 2.2uF/25V; Part Number: CSMD1206/2.2uF/25V; Component Kind: Standard; Component Type: Standard; Designator: CSMD1206/2.2uF/25V; Footprint: smd C1206 polar; Library Reference: CSMD1206/2.2uF/25V; Pin Count: 2
footprint smd C1206 polar
pins: 1, 2

## CSMD1206/3.3nF
designator C?
smd capaciteit, verp.1206, 3.3nF; Part Number: CSMD1206/3.3nF; Component Kind: Standard; Component Type: Standard; Designator: CSMD1206/3.3nF; Footprint: smd C1206; Library Reference: CSMD1206/3.3nF; Pin Count: 2
footprint smd C1206
pins: 1, 2

## CSMD1206/3.3uF/10V
designator C?
smd capaciteit, tantalium, verp.1206, 3.3uF/10V; Part Number: CSMD1206/3.3uF/10V; Component Kind: Standard; Component Type: Standard; Designator: CSMD1206/3.3uF/10V; Footprint: smd C1206 polar; Library Reference: CSMD1206/3.3uF/10V; Pin Count: 2
footprint smd C1206 polar
pins: 1, 2

## CSMD1206/3.3uF/16V
designator C?
smd capaciteit, tantalium, verp.1206, 3.3uF/16V; Part Number: CSMD1206/3.3uF/16V; Component Kind: Standard; Component Type: Standard; Designator: CSMD1206/3.3uF/16V; Footprint: smd C1206 polar; Library Reference: CSMD1206/3.3uF/16V; Pin Count: 2
footprint smd C1206 polar
pins: 1, 2

## CSMD1206/4.7nF
designator C?
smd capaciteit, verp.1206, 4.7nF; Part Number: CSMD1206/4.7nF; Component Kind: Standard; Component Type: Standard; Designator: CSMD1206/4.7nF; Footprint: smd C1206; Library Reference: CSMD1206/4.7nF; Pin Count: 2
footprint smd C1206
pins: 1, 2

## CSMD1206/4.7uF/10V
designator C?
smd capaciteit, tantalium, verp.1206, 4.7uF/10V; Part Number: CSMD1206/4.7uF/10V; Component Kind: Standard; Component Type: Standard; Designator: CSMD1206/4.7uF/10V; Footprint: smd C1206 polar; Library Reference: CSMD1206/4.7uF/10V; Pin Count: 2
footprint smd C1206 polar
pins: 1, 2

## CSMD1206/4.7uF/16V
designator C?
smd capaciteit, tantalium, verp.1206, 4.7uF/16V; Part Number: CSMD1206/4.7uF/16V; Component Kind: Standard; Component Type: Standard; Designator: CSMD1206/4.7uF/16V; Footprint: smd C1206 polar; Library Reference: CSMD1206/4.7uF/16V; Pin Count: 2
footprint smd C1206 polar
pins: 1, 2

## CSMD1206/4.7uF/20V
designator C?
smd capaciteit, tantalium, verp.1206, 4.7uF/20V; Part Number: CSMD1206/4.7uF/20V; Component Kind: Standard; Component Type: Standard; Designator: CSMD1206/4.7uF/20V; Footprint: smd C1206 polar; Library Reference: CSMD1206/4.7uF/20V; Pin Count: 2
footprint smd C1206 polar
pins: 1, 2

## CSMD1206/4.7uF/25V
designator C?
smd capaciteit, tantalium, verp.1206, 4.7uF/25V; Part Number: CSMD1206/4.7uF/25V; Component Kind: Standard; Component Type: Standard; Designator: CSMD1206/4.7uF/25V; Footprint: smd C1206 polar; Library Reference: CSMD1206/4.7uF/25V; Pin Count: 2
footprint smd C1206 polar
pins: 1, 2

## CSMD1206/10nF
designator C?
smd capaciteit, verp.1206, 10nF; Part Number: CSMD1206/10nF; Component Kind: Standard; Component Type: Standard; Designator: CSMD1206/10nF; Footprint: smd C1206; Library Reference: CSMD1206/10nF; Pin Count: 2
footprint smd C1206
pins: 1, 2

## CSMD1206/10pF
designator C?
smd capaciteit, verp.1206, 10pF; Part Number: CSMD1206/10pF; Component Kind: Standard; Component Type: Standard; Designator: CSMD1206/10pF; Footprint: smd C1206; Library Reference: CSMD1206/10pF; Pin Count: 2
footprint smd C1206
pins: 1, 2

## CSMD1206/10uF/6.3V
designator C?
smd capaciteit, tantalium, verp.1206, 10uF/6.3V; Part Number: CSMD1206/10uF/6.3V; Component Kind: Standard; Component Type: Standard; Designator: CSMD1206/10uF/6.3V; Footprint: smd C1206 polar; Library Reference: CSMD1206/10uF/6.3V; Pin Count: 2
footprint smd C1206 polar
pins: 1, 2

## CSMD1206/10uF/10V
designator C?
smd capaciteit, tantalium, verp.1206, 10uF/10V; Part Number: CSMD1206/10uF/10V; Component Kind: Standard; Component Type: Standard; Designator: CSMD1206/10uF/10V; Footprint: smd C1206 polar; Library Reference: CSMD1206/10uF/10V; Pin Count: 2
footprint smd C1206 polar
pins: 1, 2

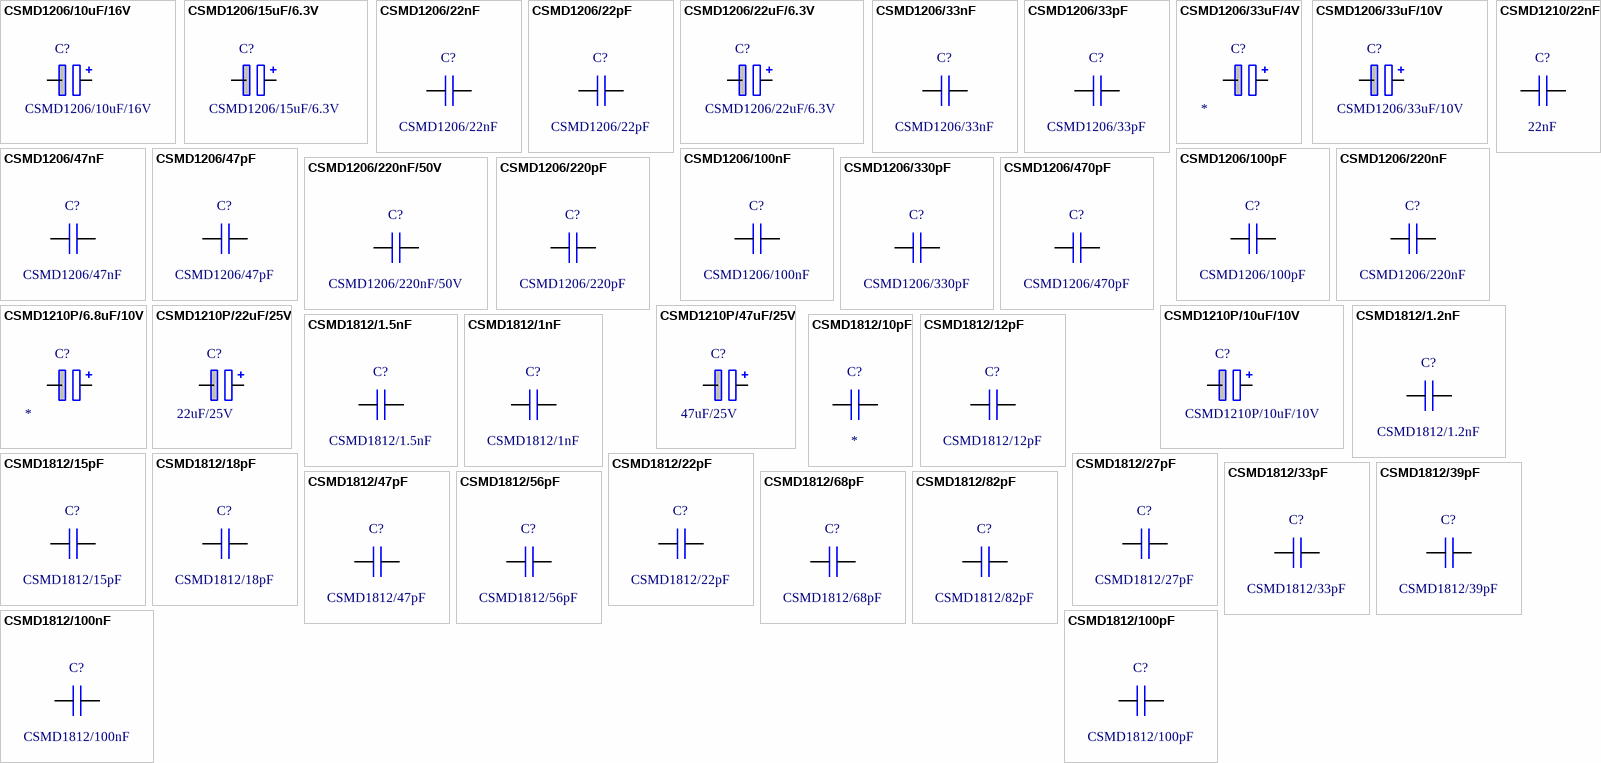
[diagram p231: symbols CSMD1206/10uF/16V to CSMD1812/100pF]

## CSMD1206/10uF/16V
designator C?
smd capaciteit, tantalium, verp.1206, 10uF/16V; Part Number: CSMD1206/10uF/16V; Component Kind: Standard; Component Type: Standard; Designator: CSMD1206/10uF/16V; Footprint: smd C1206 polar; Library Reference: CSMD1206/10uF/16V; Pin Count: 2
footprint smd C1206 polar
pins: 1, 2

## CSMD1206/15uF/6.3V
designator C?
smd capaciteit, tantalium, verp.1206, 15uF/6.3V; Part Number: CSMD1206/15uF/6.3V; Component Kind: Standard; Component Type: Standard; Designator: CSMD1206/15uF/6.3V; Footprint: smd C1206 polar; Library Reference: CSMD1206/15uF/6.3V; Pin Count: 2
footprint smd C1206 polar
pins: 1, 2

## CSMD1206/22nF
designator C?
smd capaciteit, verp.1206, 22nF; Part Number: CSMD1206/22nF; Component Kind: Standard; Component Type: Standard; Designator: CSMD1206/22nF; Footprint: smd C1206; Library Reference: CSMD1206/22nF; Pin Count: 2
footprint smd C1206
pins: 1, 2

## CSMD1206/22pF
designator C?
smd capaciteit, verp.1206, 22pF; Part Number: CSMD1206/22pF; Component Kind: Standard; Component Type: Standard; Designator: CSMD1206/22pF; Footprint: smd C1206; Library Reference: CSMD1206/22pF; Pin Count: 2
footprint smd C1206
pins: 1, 2

## CSMD1206/22uF/6.3V
designator C?
smd capaciteit, tantalium, verp.1206, 22uF/6.3V; Part Number: CSMD1206/22uF/6.3V; Component Kind: Standard; Component Type: Standard; Designator: CSMD1206/22uF/6.3V; Footprint: smd C1206 polar; Library Reference: CSMD1206/22uF/6.3V; Pin Count: 2
footprint smd C1206 polar
pins: 1, 2

## CSMD1206/33nF
designator C?
smd capaciteit, verp.1206, 33nF; Part Number: CSMD1206/33nF; Component Kind: Standard; Component Type: Standard; Designator: CSMD1206/33nF; Footprint: smd C1206; Library Reference: CSMD1206/33nF; Pin Count: 2
footprint smd C1206
pins: 1, 2

## CSMD1206/33pF
designator C?
smd capaciteit, verp.1206, 33pF; Part Number: CSMD1206/33pF; Component Kind: Standard; Component Type: Standard; Designator: CSMD1206/33pF; Footprint: smd C1206; Library Reference: CSMD1206/33pF; Pin Count: 2
footprint smd C1206
pins: 1, 2

## CSMD1206/33uF/4V
designator C?
smd capaciteit, tantalium, verp.1206, 33uF/4V
footprint smd C1206 polar
pins: 1, 2

## CSMD1206/33uF/10V
designator C?
smd capaciteit, tantalium, verp.1206, 33uF/10V; Part Number: CSMD1206/33uF/10V; Component Kind: Standard; Component Type: Standard; Designator: CSMD1206/33uF/10V; Footprint: smd C1206 polar; Library Reference: CSMD1206/33uF/10V; Pin Count: 2
footprint smd C1206 polar
pins: 1, 2

## CSMD1206/47nF
designator C?
smd capaciteit, verp.1206, 47nF; Part Number: CSMD1206/47nF; Component Kind: Standard; Component Type: Standard; Designator: CSMD1206/47nF; Footprint: smd C1206; Library Reference: CSMD1206/47nF; Pin Count: 2
footprint smd C1206
pins: 1, 2

## CSMD1206/47pF
designator C?
smd capaciteit, verp.1206, 47pF; Part Number: CSMD1206/47pF; Component Kind: Standard; Component Type: Standard; Designator: CSMD1206/47pF; Footprint: smd C1206; Library Reference: CSMD1206/47pF; Pin Count: 2
footprint smd C1206
pins: 1, 2

## CSMD1206/100nF
designator C?
smd capaciteit, verp.1206, 100nF; Part Number: CSMD1206/100nF; Component Kind: Standard; Component Type: Standard; Designator: CSMD1206/100nF; Footprint: smd C1206; Library Reference: CSMD1206/100nF; Pin Count: 2
footprint smd C1206
pins: 1, 2

## CSMD1206/100pF
designator C?
smd capaciteit, verp.1206, 100pF; Part Number: CSMD1206/100pF; Component Kind: Standard; Component Type: Standard; Designator: CSMD1206/100pF; Footprint: smd C1206; Library Reference: CSMD1206/100pF; Pin Count: 2
footprint smd C1206
pins: 1, 2

## CSMD1206/220nF
designator C?
smd capaciteit, verp.1206, 220nF; Part Number: CSMD1206/220nF; Component Kind: Standard; Component Type: Standard; Designator: CSMD1206/220nF; Footprint: smd C1206; Library Reference: CSMD1206/220nF; Pin Count: 2
footprint smd C1206
pins: 1, 2

## CSMD1206/220nF/50V
designator C?
smd capaciteit, verp.1206, 220nF; Part Number: CSMD1206/220nF/50V; Component Kind: Standard; Component Type: Standard; Designator: CSMD1206/220nF/50V; Footprint: smd C1206; Library Reference: CSMD1206/220nF/50V; Pin Count: 2
footprint smd C1206
pins: 1, 2

## CSMD1206/220pF
designator C?
smd capaciteit, verp.1206, 220pF; Part Number: CSMD1206/220pF; Component Kind: Standard; Component Type: Standard; Designator: CSMD1206/220pF; Footprint: smd C1206; Library Reference: CSMD1206/220pF; Pin Count: 2
footprint smd C1206
pins: 1, 2

## CSMD1206/330pF
designator C?
smd capaciteit, verp.1206, 330pF; Part Number: CSMD1206/330pF; Component Kind: Standard; Component Type: Standard; Designator: CSMD1206/330pF; Footprint: smd C1206; Library Reference: CSMD1206/330pF; Pin Count: 2
footprint smd C1206
pins: 1, 2

## CSMD1206/470pF
designator C?
smd capaciteit, verp.1206, 470pF; Part Number: CSMD1206/470pF; Component Kind: Standard; Component Type: Standard; Designator: CSMD1206/470pF; Footprint: smd C1206; Library Reference: CSMD1206/470pF; Pin Count: 2
footprint smd C1206
pins: 1, 2

## CSMD1210/22nF
designator C?, comment 22nF
smd capaciteit, verp.1210, 22nF
footprint smd C1210 (Chip Capacitor; Body 3.2 x 2.5 mm (LxW typ))
pins: 1, 2

## CSMD1210P/6.8uF/10V
designator C?
smd capaciteit, verp.1210, gepolariseerd, 6.8uF/10V
footprint smd C1210 polar
pins: 1, 2

## CSMD1210P/10uF/10V
designator C?
smd capaciteit, verp.1210, gepolariseerd, 10uF/10V; Part Number: CSMD1210P/10uF/10V; Component Kind: Standard; Component Type: Standard; Designator: CSMD1210P/10uF/10V; Footprint: smd C1210 polar; Library Reference: CSMD1210P/10uF/10V; Pin Count: 2
footprint smd C1210 polar
pins: 1, 2

## CSMD1210P/22uF/25V
designator C?, comment 22uF/25V
smd capaciteit, verp.1210, gepolariseerd, 22uF/25V
footprint smd C1210 polar
pins: 1, 2

## CSMD1210P/47uF/25V
designator C?, comment 47uF/25V
smd capaciteit, verp.1210, gepolariseerd, 47uF/25V
footprint smd C1210 polar
pins: 1, 2

## CSMD1812/1.2nF
designator C?
smd capaciteit, verp.1812, 1.2nF; Part Number: CSMD1812/1.2nF; Component Kind: Standard; Component Type: Standard; Designator: CSMD1812/1.2nF; Footprint: smd C1812; Library Reference: CSMD1812/1.2nF; Pin Count: 2
footprint smd C1812
pins: 1, 2

## CSMD1812/1.5nF
designator C?
smd capaciteit, verp.1812, 1.5nF; Part Number: CSMD1812/1.5nF; Component Kind: Standard; Component Type: Standard; Designator: CSMD1812/1.5nF; Footprint: smd C1812; Library Reference: CSMD1812/1.5nF; Pin Count: 2
footprint smd C1812
pins: 1, 2

## CSMD1812/1nF
designator C?
smd capaciteit, verp.1812, 1nF; Part Number: CSMD1812/1nF; Component Kind: Standard; Component Type: Standard; Designator: CSMD1812/1nF; Footprint: smd C1812; Library Reference: CSMD1812/1nF; Pin Count: 2
footprint smd C1812
pins: 1, 2

## CSMD1812/10pF
designator C?
smd capaciteit, verp.1812, 10pF
footprint smd C1812
pins: 1, 2

## CSMD1812/12pF
designator C?
smd capaciteit, verp.1812, 12pF; Part Number: CSMD1812/12pF; Component Kind: Standard; Component Type: Standard; Designator: CSMD1812/12pF; Footprint: smd C1812; Library Reference: CSMD1812/12pF; Pin Count: 2
footprint smd C1812
pins: 1, 2

## CSMD1812/15pF
designator C?
smd capaciteit, verp.1812, 15pF; Part Number: CSMD1812/15pF; Component Kind: Standard; Component Type: Standard; Designator: CSMD1812/15pF; Footprint: smd C1812; Library Reference: CSMD1812/15pF; Pin Count: 2
footprint smd C1812
pins: 1, 2

## CSMD1812/18pF
designator C?
smd capaciteit, verp.1812, 18pF; Part Number: CSMD1812/18pF; Component Kind: Standard; Component Type: Standard; Designator: CSMD1812/18pF; Footprint: smd C1812; Library Reference: CSMD1812/18pF; Pin Count: 2
footprint smd C1812
pins: 1, 2

## CSMD1812/22pF
designator C?
smd capaciteit, verp.1812, 22pF; Part Number: CSMD1812/22pF; Component Kind: Standard; Component Type: Standard; Designator: CSMD1812/22pF; Footprint: smd C1812; Library Reference: CSMD1812/22pF; Pin Count: 2
footprint smd C1812
pins: 1, 2

## CSMD1812/27pF
designator C?
smd capaciteit, verp.1812, 27pF; Part Number: CSMD1812/27pF; Component Kind: Standard; Component Type: Standard; Designator: CSMD1812/27pF; Footprint: smd C1812; Library Reference: CSMD1812/27pF; Pin Count: 2
footprint smd C1812
pins: 1, 2

## CSMD1812/33pF
designator C?
smd capaciteit, verp.1812, 33pF; Part Number: CSMD1812/33pF; Component Kind: Standard; Component Type: Standard; Designator: CSMD1812/33pF; Footprint: smd C1812; Library Reference: CSMD1812/33pF; Pin Count: 2
footprint smd C1812
pins: 1, 2

## CSMD1812/39pF
designator C?
smd capaciteit, verp.1812, 39pF; Part Number: CSMD1812/39pF; Component Kind: Standard; Component Type: Standard; Designator: CSMD1812/39pF; Footprint: smd C1812; Library Reference: CSMD1812/39pF; Pin Count: 2
footprint smd C1812
pins: 1, 2

## CSMD1812/47pF
designator C?
smd capaciteit, verp.1812, 47pF; Part Number: CSMD1812/47pF; Component Kind: Standard; Component Type: Standard; Designator: CSMD1812/47pF; Footprint: smd C1812; Library Reference: CSMD1812/47pF; Pin Count: 2
footprint smd C1812
pins: 1, 2

## CSMD1812/56pF
designator C?
smd capaciteit, verp.1812, 56pF; Part Number: CSMD1812/56pF; Component Kind: Standard; Component Type: Standard; Designator: CSMD1812/56pF; Footprint: smd C1812; Library Reference: CSMD1812/56pF; Pin Count: 2
footprint smd C1812
pins: 1, 2

## CSMD1812/68pF
designator C?
smd capaciteit, verp.1812, 68pF; Part Number: CSMD1812/68pF; Component Kind: Standard; Component Type: Standard; Designator: CSMD1812/68pF; Footprint: smd C1812; Library Reference: CSMD1812/68pF; Pin Count: 2
footprint smd C1812
pins: 1, 2

## CSMD1812/82pF
designator C?
smd capaciteit, verp.1812, 82pF; Part Number: CSMD1812/82pF; Component Kind: Standard; Component Type: Standard; Designator: CSMD1812/82pF; Footprint: smd C1812; Library Reference: CSMD1812/82pF; Pin Count: 2
footprint smd C1812
pins: 1, 2

## CSMD1812/100nF
designator C?
smd capaciteit, verp.1812, 100nF; Part Number: CSMD1812/100nF; Component Kind: Standard; Component Type: Standard; Designator: CSMD1812/100nF; Footprint: smd C1812; Library Reference: CSMD1812/100nF; Pin Count: 2
footprint smd C1812
pins: 1, 2

## CSMD1812/100pF
designator C?
smd capaciteit, verp.1812, 100pF; Part Number: CSMD1812/100pF; Component Kind: Standard; Component Type: Standard; Designator: CSMD1812/100pF; Footprint: smd C1812; Library Reference: CSMD1812/100pF; Pin Count: 2
footprint smd C1812
pins: 1, 2

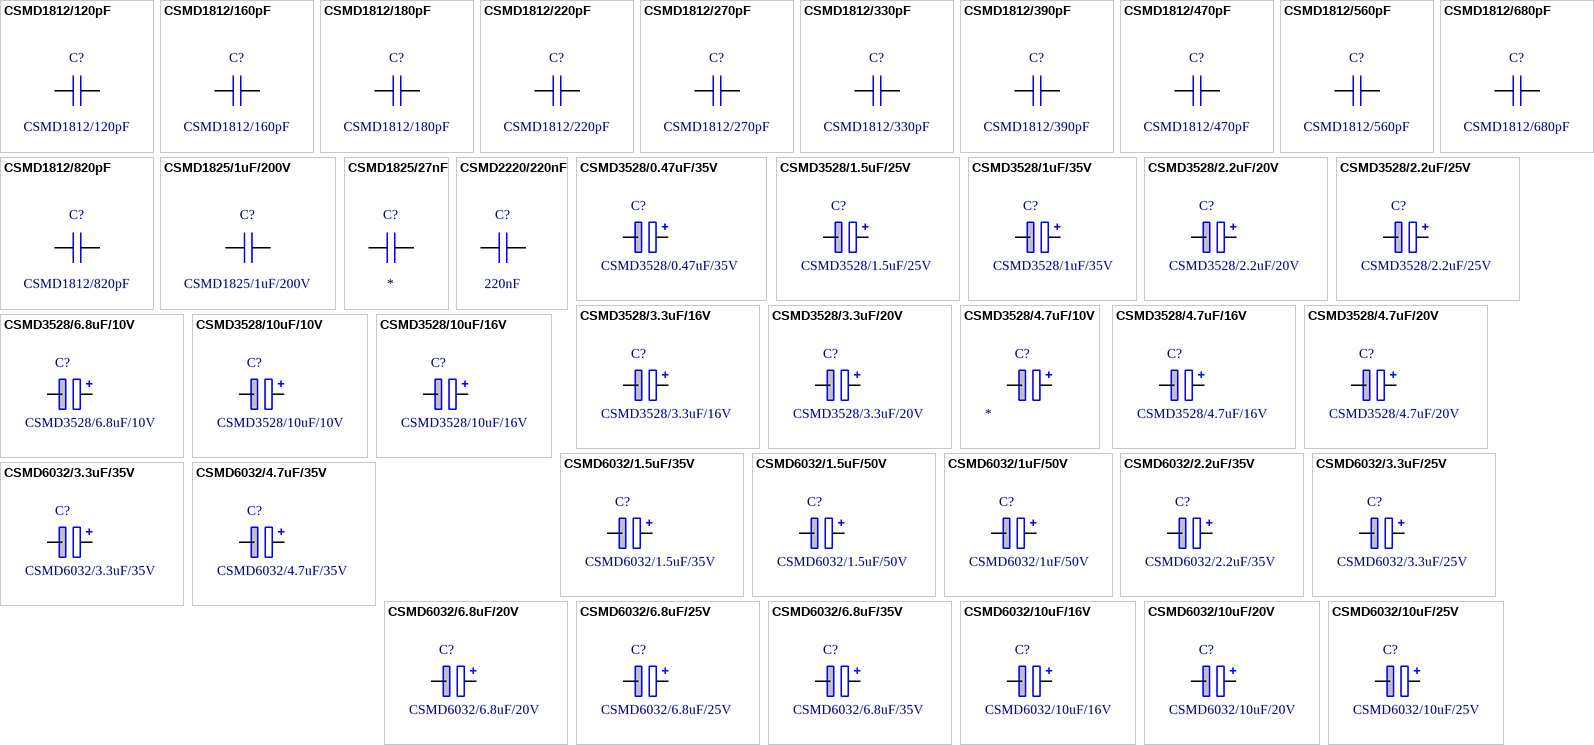
[diagram p232: symbols CSMD1812/120pF to CSMD6032/10uF/25V]

## CSMD1812/120pF
designator C?
smd capaciteit, verp.1812, 120pF; Part Number: CSMD1812/120pF; Component Kind: Standard; Component Type: Standard; Designator: CSMD1812/120pF; Footprint: smd C1812; Library Reference: CSMD1812/120pF; Pin Count: 2
footprint smd C1812
pins: 1, 2

## CSMD1812/160pF
designator C?
smd capaciteit, verp.1812, 160pF; Part Number: CSMD1812/160pF; Component Kind: Standard; Component Type: Standard; Designator: CSMD1812/160pF; Footprint: smd C1812; Library Reference: CSMD1812/160pF; Pin Count: 2
footprint smd C1812
pins: 1, 2

## CSMD1812/180pF
designator C?
smd capaciteit, verp.1812, 180pF; Part Number: CSMD1812/180pF; Component Kind: Standard; Component Type: Standard; Designator: CSMD1812/180pF; Footprint: smd C1812; Library Reference: CSMD1812/180pF; Pin Count: 2
footprint smd C1812
pins: 1, 2

## CSMD1812/220pF
designator C?
smd capaciteit, verp.1812, 220pF; Part Number: CSMD1812/220pF; Component Kind: Standard; Component Type: Standard; Designator: CSMD1812/220pF; Footprint: smd C1812; Library Reference: CSMD1812/220pF; Pin Count: 2
footprint smd C1812
pins: 1, 2

## CSMD1812/270pF
designator C?
smd capaciteit, verp.1812, 270pF; Part Number: CSMD1812/270pF; Component Kind: Standard; Component Type: Standard; Designator: CSMD1812/270pF; Footprint: smd C1812; Library Reference: CSMD1812/270pF; Pin Count: 2
footprint smd C1812
pins: 1, 2

## CSMD1812/330pF
designator C?
smd capaciteit, verp.1812, 330pF; Part Number: CSMD1812/330pF; Component Kind: Standard; Component Type: Standard; Designator: CSMD1812/330pF; Footprint: smd C1812; Library Reference: CSMD1812/330pF; Pin Count: 2
footprint smd C1812
pins: 1, 2

## CSMD1812/390pF
designator C?
smd capaciteit, verp.1812, 390pF; Part Number: CSMD1812/390pF; Component Kind: Standard; Component Type: Standard; Designator: CSMD1812/390pF; Footprint: smd C1812; Library Reference: CSMD1812/390pF; Pin Count: 2
footprint smd C1812
pins: 1, 2

## CSMD1812/470pF
designator C?
smd capaciteit, verp.1812, 470pF; Part Number: CSMD1812/470pF; Component Kind: Standard; Component Type: Standard; Designator: CSMD1812/470pF; Footprint: smd C1812; Library Reference: CSMD1812/470pF; Pin Count: 2
footprint smd C1812
pins: 1, 2

## CSMD1812/560pF
designator C?
smd capaciteit, verp.1812, 560pF; Part Number: CSMD1812/560pF; Component Kind: Standard; Component Type: Standard; Designator: CSMD1812/560pF; Footprint: smd C1812; Library Reference: CSMD1812/560pF; Pin Count: 2
footprint smd C1812
pins: 1, 2

## CSMD1812/680pF
designator C?
smd capaciteit, verp.1812, 680pF; Part Number: CSMD1812/680pF; Component Kind: Standard; Component Type: Standard; Designator: CSMD1812/680pF; Footprint: smd C1812; Library Reference: CSMD1812/680pF; Pin Count: 2
footprint smd C1812
pins: 1, 2